# EAGLE library part DOGM204-A (library Pump_Component)
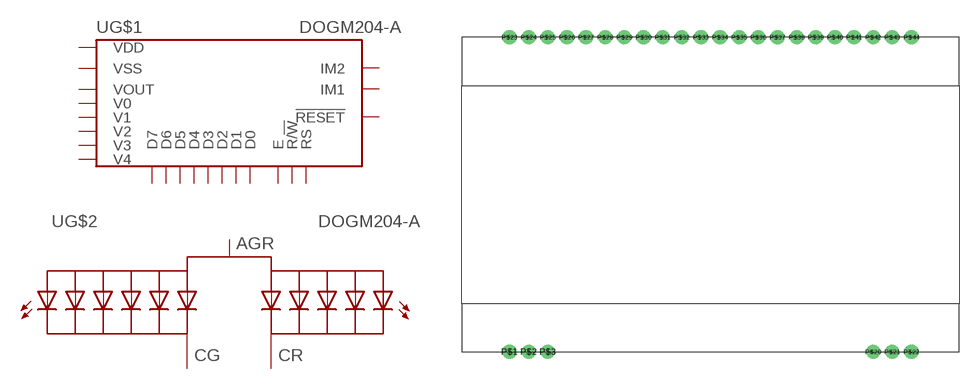
[diagram p0: symbol with the pads of LCD; footprint LCD]

Designator prefix -; gates G$1=DOGM204-A G$2=BACKLIGHT_RG

## DOGM204-A  [LCD]
P$1  G$2:AGR  pas
P$21  G$2:CG  pas
P$22  G$2:CR  pas
P$23  G$1:VOUT
P$24  G$1:V0
P$25  G$1:V1
P$26  G$1:V2
P$27  G$1:V3
P$28  G$1:V4
P$29  G$1:IM2
P$30  G$1:IM1
P$31  G$1:VDD
P$32  G$1:VSS
P$33  G$1:D7
P$34  G$1:D6
P$35  G$1:D5
P$36  G$1:D4
P$37  G$1:D3
P$38  G$1:D2
P$39  G$1:D1
P$40  G$1:D0
P$41  G$1:E
P$42  G$1:R/!W
P$43  G$1:RS
P$44  G$1:!RESET

## Footprint LCD (pad centres in mm)
drill 1.016 pad 1.88: P$1 -26.67,-20.9; P$2 -24.13,-20.9; P$3 -21.59,-20.9; P$20 21.59,-20.9; P$21 24.13,-20.9; P$22 26.67,-20.9; P$23 -26.67,20.9; P$24 -24.13,20.9; P$25 -21.59,20.9; P$26 -19.05,20.9; P$27 -16.51,20.9; P$28 -13.97,20.9; P$29 -11.43,20.9; P$30 -8.89,20.9; P$31 -6.35,20.9; P$32 -3.81,20.9; P$33 -1.27,20.9; P$34 1.27,20.9; P$35 3.81,20.9; P$36 6.35,20.9; P$37 8.89,20.9; P$38 11.43,20.9; P$39 13.97,20.9; P$40 16.51,20.9; P$41 19.05,20.9; P$42 21.59,20.9; P$43 24.13,20.9; P$44 26.67,20.9